# EAGLE library part 794618-8 (library robotter_connector)
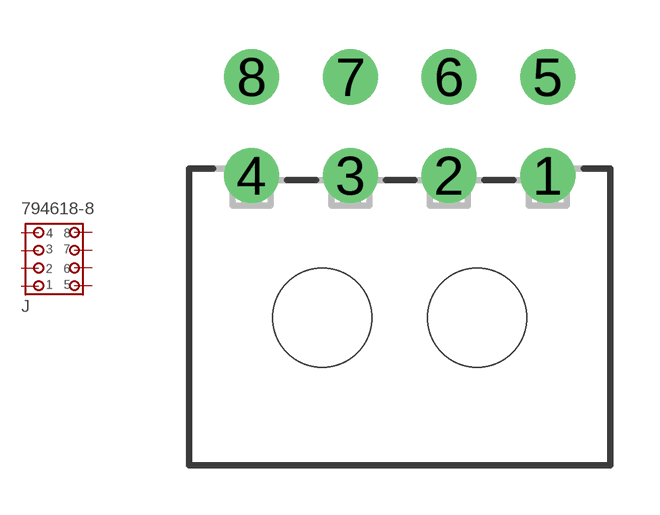
[diagram p13: symbol with the pads of 794618-8; footprint 794618-8]

Designator prefix J

## 794618-8 (MOUSER: 571-3-794618-8; RS: 495-9451; VALUE: 794618-8)  [794618-8]
1  1  pas
2  2  pas
3  3  pas
4  4  pas
5  5  pas
6  6  pas
7  7  pas
8  8  pas

## Footprint 794618-8 (pad centres in mm)
Micro MATE-N-LOK Connectors grid 3.0 mm Source: ENG_CD_794618_E1.pdf
drill 1 pad 1.676: 1 4.5,4.32; 2 1.5,4.32; 3 -1.5,4.32; 4 -4.5,4.32; 5 4.5,7.32; 6 1.5,7.32; 7 -1.5,7.32; 8 -4.5,7.32
hole 3 at -2.35,0
hole 3 at 2.35,0